# Altium footprint library Con High-Speed PCB.PcbLib: 35 footprints (part 1 of 3)
Each footprint in its own frame and in the unit in brackets; x right, y up, seen from the top. Pads: shape width x height; smd on the part's side, far side on the other; paste and mask are expansions set on the pad; w line width, h text height; cw(c..) or ccw(c..) is an arc to the next point about the centre after c.
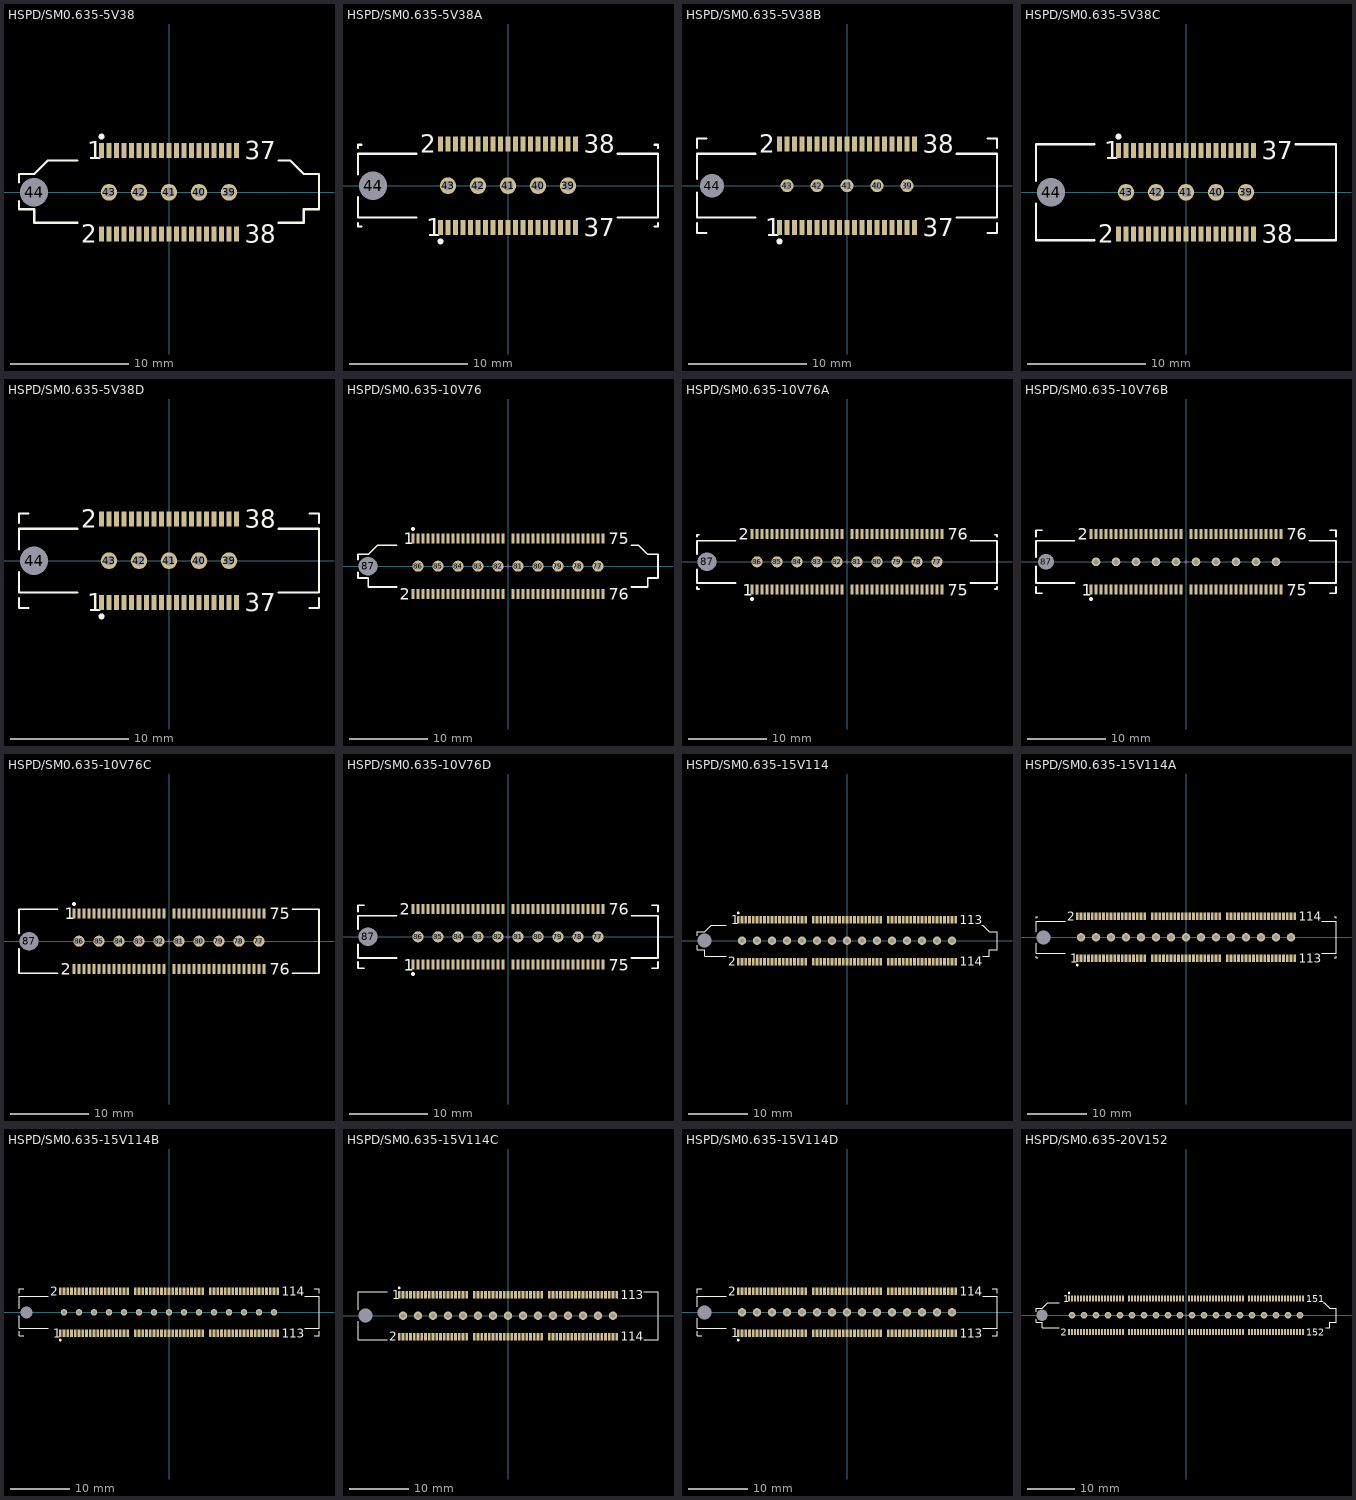
[diagram p0: the footprints below, top view; thin cyan lines are the x and y axes]

## HSPD/SM0.635-5V38 [mil] "Connector; High-Speed, Plug; 38 Position; Vertical"
height 435.83
pads (44):
  rect 17x50 smd: 1(-225,139) 2(-225,-139) 3(-200,139) 4(-200,-139) 5(-175,139) 6(-175,-139) 7(-150,139) 8(-150,-139) 9(-125,139) 10(-125,-139) 11(-100,139) 12(-100,-139) 13(-75,139) 14(-75,-139) 15(-50,139) 16(-50,-139) 17(-25,139) 18(-25,-139) 19(0,139) 20(0,-139) 21(25,139) 22(25,-139) 23(50,139) 24(50,-139) 25(75,139) 26(75,-139) 27(100,139) 28(100,-139) 29(125,139) 30(125,-139) 31(150,139) 32(150,-139) 33(175,139) 34(175,-139) 35(200,139) 36(200,-139) 37(225,139) 38(225,-139)
  round 55.12 hole 32: 39(200,0) 40(100,0) 41(0,0) 42(-100,0) 43(-200,0)
  round 82.19 hole 94 unplated: 44(-450,0)
Top Overlay:
  circle w9.84: c-225,185.65 r4.92
  lines w7.87: -500,-29.2 -500,-56.88 -449,-56.88 -449,-101.88 -306.32,-101.88 ; -500,33.43 -500,61.12 -449,61.12 -404,106.12 -306.32,106.12 ; 365.36,-101.88 449,-101.88 449,-56.88 500,-56.88 500,61.12 449,61.12 404,106.12 365.36,106.12
  text "1" at -272.24,109.47 h59.06
  text "2" at -291.93,-168.53 h59.06
  text "37" at 252.56,109.47 h59.06
  text "38" at 252.56,-168.53 h59.06

## HSPD/SM0.635-5V38A [mil] "Connector; High-Speed, Receptacle; 38 Position; Vertical"
height 250
pads (44):
  rect 17x50 smd: 1(-225,-139) 2(-225,139) 3(-200,-139) 4(-200,139) 5(-175,-139) 6(-175,139) 7(-150,-139) 8(-150,139) 9(-125,-139) 10(-125,139) 11(-100,-139) 12(-100,139) 13(-75,-139) 14(-75,139) 15(-50,-139) 16(-50,139) 17(-25,-139) 18(-25,139) 19(0,-139) 20(0,139) 21(25,-139) 22(25,139) 23(50,-139) 24(50,139) 25(75,-139) 26(75,139) 27(100,-139) 28(100,139) 29(125,-139) 30(125,139) 31(150,-139) 32(150,139) 33(175,-139) 34(175,139) 35(200,-139) 36(200,139) 37(225,-139) 38(225,139)
  round 55.12 hole 32: 39(200,0) 40(100,0) 41(0,0) 42(-100,0) 43(-200,0)
  round 82.19 hole 94 unplated: 44(-450,0)
Top Overlay:
  circle w9.84: c-225,-185.65 r4.92
  lines w7.87: -500,-125.69 -500,-136 -489.69,-136 ; -500,-37.91 -500,-106 -306.32,-106 ; -500,37.91 -500,106 -306.32,106 ; -500,125.69 -500,136 -489.69,136 ; 365.36,-106 500,-106 500,106 365.36,106 ; 489.69,-136 500,-136 500,-125.69 ; 489.69,136 500,136 500,125.69
  text "1" at -272.24,-168.53 h59.06
  text "2" at -291.93,109.47 h59.06
  text "37" at 252.56,-168.53 h59.06
  text "38" at 252.56,109.47 h59.06

## HSPD/SM0.635-5V38B [mil] "Connector; High-Speed, Receptacle; 38 Position; Vertical"
height 600.79
pads (44):
  rect 17x50 smd: 1(-225,-139) 2(-225,139) 3(-200,-139) 4(-200,139) 5(-175,-139) 6(-175,139) 7(-150,-139) 8(-150,139) 9(-125,-139) 10(-125,139) 11(-100,-139) 12(-100,139) 13(-75,-139) 14(-75,139) 15(-50,-139) 16(-50,139) 17(-25,-139) 18(-25,139) 19(0,-139) 20(0,139) 21(25,-139) 22(25,139) 23(50,-139) 24(50,139) 25(75,-139) 26(75,139) 27(100,-139) 28(100,139) 29(125,-139) 30(125,139) 31(150,-139) 32(150,139) 33(175,-139) 34(175,139) 35(200,-139) 36(200,139) 37(225,-139) 38(225,139)
  round 43.31 hole 25: 39(200,0) 40(100,0) 41(0,0) 42(-100,0) 43(-200,0)
  round 67.19 hole 79 unplated: 44(-450,0)
Top Overlay:
  circle w9.84: c-225,-185.65 r4.92
  lines w7.87: -500,-125.69 -500,-157.5 -468.19,-157.5 ; -500,-23.5 -500,-106 -306.32,-106 ; -500,23.5 -500,106 -306.32,106 ; -500,125.69 -500,157.5 -468.19,157.5 ; 365.36,-106 500,-106 500,106 365.36,106 ; 468.19,-157.5 500,-157.5 500,-125.69 ; 468.19,157.5 500,157.5 500,125.69
  text "38" at 252.56,109.47 h59.06
  text "37" at 252.56,-168.53 h59.06
  text "2" at -291.93,109.47 h59.06
  text "1" at -272.24,-168.53 h59.06

## HSPD/SM0.635-5V38C [mil] "Connector; High-Speed, Plug; 38 Position; Vertical"
height 903.15
pads (44):
  rect 17x50 smd: 1(-225,139) 2(-225,-139) 3(-200,139) 4(-200,-139) 5(-175,139) 6(-175,-139) 7(-150,139) 8(-150,-139) 9(-125,139) 10(-125,-139) 11(-100,139) 12(-100,-139) 13(-75,139) 14(-75,-139) 15(-50,139) 16(-50,-139) 17(-25,139) 18(-25,-139) 19(0,139) 20(0,-139) 21(25,139) 22(25,-139) 23(50,139) 24(50,-139) 25(75,139) 26(75,-139) 27(100,139) 28(100,-139) 29(125,139) 30(125,-139) 31(150,139) 32(150,-139) 33(175,139) 34(175,-139) 35(200,139) 36(200,-139) 37(225,139) 38(225,-139)
  round 55.12 hole 32: 39(200,0) 40(100,0) 41(0,0) 42(-100,0) 43(-200,0)
  round 82.19 hole 94 unplated: 44(-450,0)
Top Overlay:
  circle w9.84: c-225,185.65 r4.92
  lines w7.87: -500,-37.91 -500,-160 -306.32,-160 ; -500,37.91 -500,160 -306.32,160 ; 365.36,-160 500,-160 500,160 365.36,160
  text "2" at -291.93,-168.53 h59.06
  text "1" at -272.24,109.47 h59.06
  text "37" at 252.56,109.47 h59.06
  text "38" at 252.56,-168.53 h59.06

## HSPD/SM0.635-5V38D [mil] "Connector; High-Speed, Receptacle; 38 Position; Vertical"
height 600.79
pads (44):
  rect 17x50 smd: 1(-225,-139) 2(-225,139) 3(-200,-139) 4(-200,139) 5(-175,-139) 6(-175,139) 7(-150,-139) 8(-150,139) 9(-125,-139) 10(-125,139) 11(-100,-139) 12(-100,139) 13(-75,-139) 14(-75,139) 15(-50,-139) 16(-50,139) 17(-25,-139) 18(-25,139) 19(0,-139) 20(0,139) 21(25,-139) 22(25,139) 23(50,-139) 24(50,139) 25(75,-139) 26(75,139) 27(100,-139) 28(100,139) 29(125,-139) 30(125,139) 31(150,-139) 32(150,139) 33(175,-139) 34(175,139) 35(200,-139) 36(200,139) 37(225,-139) 38(225,139)
  round 55.12 hole 32: 39(200,0) 40(100,0) 41(0,0) 42(-100,0) 43(-200,0)
  round 82.19 hole 94 unplated: 44(-450,0)
Top Overlay:
  circle w9.84: c-225,-185.65 r4.92
  lines w7.87: -500,-125.69 -500,-157.5 -468.19,-157.5 ; -500,-37.91 -500,-106 -306.32,-106 ; -500,37.91 -500,106 -306.32,106 ; -500,125.69 -500,157.5 -468.19,157.5 ; 365.36,-106 500,-106 500,106 365.36,106 ; 468.19,-157.5 500,-157.5 500,-125.69 ; 468.19,157.5 500,157.5 500,125.69
  text "38" at 252.56,109.47 h59.06
  text "37" at 252.56,-168.53 h59.06
  text "2" at -291.93,109.47 h59.06
  text "1" at -272.24,-168.53 h59.06

## HSPD/SM0.635-10V76 [mil] "Connector; High-Speed, Plug; 76 Position; Vertical"
height 435.83
pads (87):
  rect 17x50 smd: 1(-475,139) 2(-475,-139) 3(-450,139) 4(-450,-139) 5(-425,139) 6(-425,-139) 7(-400,139) 8(-400,-139) 9(-375,139) 10(-375,-139) 11(-350,139) 12(-350,-139) 13(-325,139) 14(-325,-139) 15(-300,139) 16(-300,-139) 17(-275,139) 18(-275,-139) 19(-250,139) 20(-250,-139) 21(-225,139) 22(-225,-139) 23(-200,139) 24(-200,-139) 25(-175,139) 26(-175,-139) 27(-150,139) 28(-150,-139) 29(-125,139) 30(-125,-139) 31(-100,139) 32(-100,-139) 33(-75,139) 34(-75,-139) 35(-50,139) 36(-50,-139) 37(-25,139) 38(-25,-139) 39(25,139) 40(25,-139) 41(50,139) 42(50,-139) 43(75,139) 44(75,-139) 45(100,139) 46(100,-139) 47(125,139) 48(125,-139) 49(150,139) 50(150,-139) 51(175,139) 52(175,-139) 53(200,139) 54(200,-139) 55(225,139) 56(225,-139) 57(250,139) 58(250,-139) 59(275,139) 60(275,-139) 61(300,139) 62(300,-139) 63(325,139) 64(325,-139) 65(350,139) 66(350,-139) 67(375,139) 68(375,-139) 69(400,139) 70(400,-139) 71(425,139) 72(425,-139) 73(450,139) 74(450,-139) 75(475,139) 76(475,-139)
  round 55.12 hole 32: 77(450,0) 78(350,0) 79(250,0) 80(150,0) 81(50,0) 82(-50,0) 83(-150,0) 84(-250,0) 85(-350,0) 86(-450,0)
  round 82.19 hole 94 unplated: 87(-700,0)
Top Overlay:
  circle w9.84: c-475,185.65 r4.92
  lines w7.87: -750,-31.32 -750,-59 -699,-59 -699,-104 -556.32,-104 ; -750,31.32 -750,59 -699,59 -654,104 -556.32,104 ; 615.36,-104 699,-104 699,-59 750,-59 750,59 699,59 654,104 615.36,104
  text "1" at -522.24,109.47 h59.06
  text "2" at -541.93,-168.53 h59.06
  text "75" at 502.56,109.47 h59.06
  text "76" at 502.56,-168.53 h59.06
Mechanical 1:
  lines w3.94: -10,0 10,0 ; 0,-10 0,10

## HSPD/SM0.635-10V76A [mil] "Connector; High-Speed, Receptacle; 76 Position; Vertical"
height 250
pads (87):
  rect 17x50 smd: 1(-475,-139) 2(-475,139) 3(-450,-139) 4(-450,139) 5(-425,-139) 6(-425,139) 7(-400,-139) 8(-400,139) 9(-375,-139) 10(-375,139) 11(-350,-139) 12(-350,139) 13(-325,-139) 14(-325,139) 15(-300,-139) 16(-300,139) 17(-275,-139) 18(-275,139) 19(-250,-139) 20(-250,139) 21(-225,-139) 22(-225,139) 23(-200,-139) 24(-200,139) 25(-175,-139) 26(-175,139) 27(-150,-139) 28(-150,139) 29(-125,-139) 30(-125,139) 31(-100,-139) 32(-100,139) 33(-75,-139) 34(-75,139) 35(-50,-139) 36(-50,139) 37(-25,-139) 38(-25,139) 39(25,-139) 40(25,139) 41(50,-139) 42(50,139) 43(75,-139) 44(75,139) 45(100,-139) 46(100,139) 47(125,-139) 48(125,139) 49(150,-139) 50(150,139) 51(175,-139) 52(175,139) 53(200,-139) 54(200,139) 55(225,-139) 56(225,139) 57(250,-139) 58(250,139) 59(275,-139) 60(275,139) 61(300,-139) 62(300,139) 63(325,-139) 64(325,139) 65(350,-139) 66(350,139) 67(375,-139) 68(375,139) 69(400,-139) 70(400,139) 71(425,-139) 72(425,139) 73(450,-139) 74(450,139) 75(475,-139) 76(475,139)
  round 55.12 hole 32: 77(450,0) 78(350,0) 79(250,0) 80(150,0) 81(50,0) 82(-50,0) 83(-150,0) 84(-250,0) 85(-350,0) 86(-450,0)
  round 82.19 hole 94 unplated: 87(-700,0)
Top Overlay:
  circle w9.84: c-475,-185.65 r4.92
  lines w7.87: -750,-125.69 -750,-136 -739.68,-136 ; -750,-37.91 -750,-106 -556.32,-106 ; -750,37.91 -750,106 -556.32,106 ; -750,125.69 -750,136 -739.68,136 ; 615.36,-106 750,-106 750,106 615.36,106 ; 739.68,-136 750,-136 750,-125.69 ; 739.68,136 750,136 750,125.69
  text "75" at 502.56,-168.53 h59.06
  text "76" at 502.56,109.47 h59.06
  text "1" at -522.24,-168.53 h59.06
  text "2" at -541.93,109.47 h59.06
Mechanical 1:
  lines w3.94: -10,0 10,0 ; 0,-10 0,10

## HSPD/SM0.635-10V76B [mil] "Connector; High-Speed, Receptacle; 76 Position; Vertical"
height 600.79
pads (87):
  rect 17x50 smd: 1(-475,-139) 2(-475,139) 3(-450,-139) 4(-450,139) 5(-425,-139) 6(-425,139) 7(-400,-139) 8(-400,139) 9(-375,-139) 10(-375,139) 11(-350,-139) 12(-350,139) 13(-325,-139) 14(-325,139) 15(-300,-139) 16(-300,139) 17(-275,-139) 18(-275,139) 19(-250,-139) 20(-250,139) 21(-225,-139) 22(-225,139) 23(-200,-139) 24(-200,139) 25(-175,-139) 26(-175,139) 27(-150,-139) 28(-150,139) 29(-125,-139) 30(-125,139) 31(-100,-139) 32(-100,139) 33(-75,-139) 34(-75,139) 35(-50,-139) 36(-50,139) 37(-25,-139) 38(-25,139) 39(25,-139) 40(25,139) 41(50,-139) 42(50,139) 43(75,-139) 44(75,139) 45(100,-139) 46(100,139) 47(125,-139) 48(125,139) 49(150,-139) 50(150,139) 51(175,-139) 52(175,139) 53(200,-139) 54(200,139) 55(225,-139) 56(225,139) 57(250,-139) 58(250,139) 59(275,-139) 60(275,139) 61(300,-139) 62(300,139) 63(325,-139) 64(325,139) 65(350,-139) 66(350,139) 67(375,-139) 68(375,139) 69(400,-139) 70(400,139) 71(425,-139) 72(425,139) 73(450,-139) 74(450,139) 75(475,-139) 76(475,139)
  round 43.31 hole 25: 77(450,0) 78(350,0) 79(250,0) 80(150,0) 81(50,0) 82(-50,0) 83(-150,0) 84(-250,0) 85(-350,0) 86(-450,0)
  round 67.19 hole 79 unplated: 87(-700,0)
Top Overlay:
  circle w9.84: c-475,-185.65 r4.92
  lines w7.87: -750,-125.69 -750,-157.5 -718.18,-157.5 ; -750,-23.5 -750,-106 -556.32,-106 ; -750,23.5 -750,106 -556.32,106 ; -750,125.69 -750,157.5 -718.18,157.5 ; 615.36,-106 750,-106 750,106 615.36,106 ; 718.18,-157.5 750,-157.5 750,-125.69 ; 718.18,157.5 750,157.5 750,125.69
  text "1" at -522.24,-168.53 h59.06
  text "2" at -541.93,109.47 h59.06
  text "75" at 502.56,-168.53 h59.06
  text "76" at 502.56,109.47 h59.06
Mechanical 1:
  lines w3.94: -10,0 10,0 ; 0,-10 0,10

## HSPD/SM0.635-10V76C [mil] "Connector; High-Speed, Plug; 76 Position; Vertical"
height 903.15
pads (87):
  rect 17x50 smd: 1(-475,139) 2(-475,-139) 3(-450,139) 4(-450,-139) 5(-425,139) 6(-425,-139) 7(-400,139) 8(-400,-139) 9(-375,139) 10(-375,-139) 11(-350,139) 12(-350,-139) 13(-325,139) 14(-325,-139) 15(-300,139) 16(-300,-139) 17(-275,139) 18(-275,-139) 19(-250,139) 20(-250,-139) 21(-225,139) 22(-225,-139) 23(-200,139) 24(-200,-139) 25(-175,139) 26(-175,-139) 27(-150,139) 28(-150,-139) 29(-125,139) 30(-125,-139) 31(-100,139) 32(-100,-139) 33(-75,139) 34(-75,-139) 35(-50,139) 36(-50,-139) 37(-25,139) 38(-25,-139) 39(25,139) 40(25,-139) 41(50,139) 42(50,-139) 43(75,139) 44(75,-139) 45(100,139) 46(100,-139) 47(125,139) 48(125,-139) 49(150,139) 50(150,-139) 51(175,139) 52(175,-139) 53(200,139) 54(200,-139) 55(225,139) 56(225,-139) 57(250,139) 58(250,-139) 59(275,139) 60(275,-139) 61(300,139) 62(300,-139) 63(325,139) 64(325,-139) 65(350,139) 66(350,-139) 67(375,139) 68(375,-139) 69(400,139) 70(400,-139) 71(425,139) 72(425,-139) 73(450,139) 74(450,-139) 75(475,139) 76(475,-139)
  round 55.12 hole 32: 77(450,0) 78(350,0) 79(250,0) 80(150,0) 81(50,0) 82(-50,0) 83(-150,0) 84(-250,0) 85(-350,0) 86(-450,0)
  round 82.19 hole 94 unplated: 87(-700,0)
Top Overlay:
  circle w9.84: c-475,185.65 r4.92
  lines w7.87: -750,-37.91 -750,-160 -556.32,-160 ; -750,37.91 -750,160 -556.32,160 ; 615.36,-160 750,-160 750,160 615.36,160
  text "76" at 502.56,-168.53 h59.06
  text "75" at 502.56,109.47 h59.06
  text "2" at -541.93,-168.53 h59.06
  text "1" at -522.24,109.47 h59.06
Mechanical 1:
  lines w3.94: -10,0 10,0 ; 0,-10 0,10

## HSPD/SM0.635-10V76D [mil] "Connector; High-Speed, Receptacle; 76 Position; Vertical"
height 600.79
pads (87):
  rect 17x50 smd: 1(-475,-139) 2(-475,139) 3(-450,-139) 4(-450,139) 5(-425,-139) 6(-425,139) 7(-400,-139) 8(-400,139) 9(-375,-139) 10(-375,139) 11(-350,-139) 12(-350,139) 13(-325,-139) 14(-325,139) 15(-300,-139) 16(-300,139) 17(-275,-139) 18(-275,139) 19(-250,-139) 20(-250,139) 21(-225,-139) 22(-225,139) 23(-200,-139) 24(-200,139) 25(-175,-139) 26(-175,139) 27(-150,-139) 28(-150,139) 29(-125,-139) 30(-125,139) 31(-100,-139) 32(-100,139) 33(-75,-139) 34(-75,139) 35(-50,-139) 36(-50,139) 37(-25,-139) 38(-25,139) 39(25,-139) 40(25,139) 41(50,-139) 42(50,139) 43(75,-139) 44(75,139) 45(100,-139) 46(100,139) 47(125,-139) 48(125,139) 49(150,-139) 50(150,139) 51(175,-139) 52(175,139) 53(200,-139) 54(200,139) 55(225,-139) 56(225,139) 57(250,-139) 58(250,139) 59(275,-139) 60(275,139) 61(300,-139) 62(300,139) 63(325,-139) 64(325,139) 65(350,-139) 66(350,139) 67(375,-139) 68(375,139) 69(400,-139) 70(400,139) 71(425,-139) 72(425,139) 73(450,-139) 74(450,139) 75(475,-139) 76(475,139)
  round 55.12 hole 32: 77(450,0) 78(350,0) 79(250,0) 80(150,0) 81(50,0) 82(-50,0) 83(-150,0) 84(-250,0) 85(-350,0) 86(-450,0)
  round 82.19 hole 94 unplated: 87(-700,0)
Top Overlay:
  circle w9.84: c-475,-185.65 r4.92
  lines w7.87: -750,-125.69 -750,-157.5 -718.18,-157.5 ; -750,-37.91 -750,-106 -556.32,-106 ; -750,37.91 -750,106 -556.32,106 ; -750,125.69 -750,157.5 -718.18,157.5 ; 615.36,-106 750,-106 750,106 615.36,106 ; 718.18,-157.5 750,-157.5 750,-125.69 ; 718.18,157.5 750,157.5 750,125.69
  text "76" at 502.56,109.47 h59.06
  text "75" at 502.56,-168.53 h59.06
  text "2" at -541.93,109.47 h59.06
  text "1" at -522.24,-168.53 h59.06
Mechanical 1:
  lines w3.94: -10,0 10,0 ; 0,-10 0,10

## HSPD/SM0.635-15V114 [mil] "Connector; High-Speed, Plug; 114 Position; Vertical"
height 435.83
pads (130):
  rect 17x50 smd: 1(-725,139) 2(-725,-139) 3(-700,139) 4(-700,-139) 5(-675,139) 6(-675,-139) 7(-650,139) 8(-650,-139) 9(-625,139) 10(-625,-139) 11(-600,139) 12(-600,-139) 13(-575,139) 14(-575,-139) 15(-550,139) 16(-550,-139) 17(-525,139) 18(-525,-139) 19(-500,139) 20(-500,-139) 21(-475,139) 22(-475,-139) 23(-450,139) 24(-450,-139) 25(-425,139) 26(-425,-139) 27(-400,139) 28(-400,-139) 29(-375,139) 30(-375,-139) 31(-350,139) 32(-350,-139) 33(-325,139) 34(-325,-139) 35(-300,139) 36(-300,-139) 37(-275,139) 38(-275,-139) 39(-225,139) 40(-225,-139) 41(-200,139) 42(-200,-139) 43(-175,139) 44(-175,-139) 45(-150,139) 46(-150,-139) 47(-125,139) 48(-125,-139) 49(-100,139) 50(-100,-139) 51(-75,139) 52(-75,-139) 53(-50,139) 54(-50,-139) 55(-25,139) 56(-25,-139) 57(0,139) 58(0,-139) 59(25,139) 60(25,-139) 61(50,139) 62(50,-139) 63(75,139) 64(75,-139) 65(100,139) 66(100,-139) 67(125,139) 68(125,-139) 69(150,139) 70(150,-139) 71(175,139) 72(175,-139) 73(200,139) 74(200,-139) 75(225,139) 76(225,-139) 77(275,139) 78(275,-139) 79(300,139) 80(300,-139) 81(325,139) 82(325,-139) 83(350,139) 84(350,-139) 85(375,139) 86(375,-139) 87(400,139) 88(400,-139) 89(425,139) 90(425,-139) 91(450,139) 92(450,-139) 93(475,139) 94(475,-139) 95(500,139) 96(500,-139) 97(525,139) 98(525,-139) 99(550,139) 100(550,-139) 101(575,139) 102(575,-139) 103(600,139) 104(600,-139) 105(625,139) 106(625,-139) 107(650,139) 108(650,-139) 109(675,139) 110(675,-139) 111(700,139) 112(700,-139) 113(725,139) 114(725,-139)
  round 55.12 hole 32: 115(700,0) 116(600,0) 117(500,0) 118(400,0) 119(300,0) 120(200,0) 121(100,0) 122(0,0) 123(-100,0) 124(-200,0) 125(-300,0) 126(-400,0) 127(-500,0) 128(-600,0) 129(-700,0)
  round 82.19 hole 94 unplated: 130(-950,0)
Top Overlay:
  circle w9.84: c-725,185.65 r4.92
  lines w7.87: -1000,-31.32 -1000,-59 -949,-59 -949,-104 -806.32,-104 ; -1000,31.32 -1000,59 -949,59 -904,104 -806.32,104 ; 898.23,104 904,104 949,59 1000,59 1000,-59 949,-59 949,-104 904.71,-104
  text "114" at 752.56,-168.53 h59.06
  text "113" at 752.56,109.47 h59.06
  text "1" at -772.24,109.47 h59.06
  text "2" at -791.93,-168.53 h59.06

## HSPD/SM0.635-15V114A [mil] "Connector; High-Speed, Receptacle; 114 Position; Vertical"
height 250
pads (130):
  rect 17x50 smd: 1(-725,-139) 2(-725,139) 3(-700,-139) 4(-700,139) 5(-675,-139) 6(-675,139) 7(-650,-139) 8(-650,139) 9(-625,-139) 10(-625,139) 11(-600,-139) 12(-600,139) 13(-575,-139) 14(-575,139) 15(-550,-139) 16(-550,139) 17(-525,-139) 18(-525,139) 19(-500,-139) 20(-500,139) 21(-475,-139) 22(-475,139) 23(-450,-139) 24(-450,139) 25(-425,-139) 26(-425,139) 27(-400,-139) 28(-400,139) 29(-375,-139) 30(-375,139) 31(-350,-139) 32(-350,139) 33(-325,-139) 34(-325,139) 35(-300,-139) 36(-300,139) 37(-275,-139) 38(-275,139) 39(-225,-139) 40(-225,139) 41(-200,-139) 42(-200,139) 43(-175,-139) 44(-175,139) 45(-150,-139) 46(-150,139) 47(-125,-139) 48(-125,139) 49(-100,-139) 50(-100,139) 51(-75,-139) 52(-75,139) 53(-50,-139) 54(-50,139) 55(-25,-139) 56(-25,139) 57(0,-139) 58(0,139) 59(25,-139) 60(25,139) 61(50,-139) 62(50,139) 63(75,-139) 64(75,139) 65(100,-139) 66(100,139) 67(125,-139) 68(125,139) 69(150,-139) 70(150,139) 71(175,-139) 72(175,139) 73(200,-139) 74(200,139) 75(225,-139) 76(225,139) 77(275,-139) 78(275,139) 79(300,-139) 80(300,139) 81(325,-139) 82(325,139) 83(350,-139) 84(350,139) 85(375,-139) 86(375,139) 87(400,-139) 88(400,139) 89(425,-139) 90(425,139) 91(450,-139) 92(450,139) 93(475,-139) 94(475,139) 95(500,-139) 96(500,139) 97(525,-139) 98(525,139) 99(550,-139) 100(550,139) 101(575,-139) 102(575,139) 103(600,-139) 104(600,139) 105(625,-139) 106(625,139) 107(650,-139) 108(650,139) 109(675,-139) 110(675,139) 111(700,-139) 112(700,139) 113(725,-139) 114(725,139)
  round 55.12 hole 32: 115(700,0) 116(600,0) 117(500,0) 118(400,0) 119(300,0) 120(200,0) 121(100,0) 122(0,0) 123(-100,0) 124(-200,0) 125(-300,0) 126(-400,0) 127(-500,0) 128(-600,0) 129(-700,0)
  round 82.19 hole 94 unplated: 130(-950,0)
Top Overlay:
  circle w9.84: c-725,-185.65 r4.92
  lines w7.87: -1000,-125.69 -1000,-136 -989.68,-136 ; -1000,-37.91 -1000,-106 -806.32,-106 ; -1000,37.91 -1000,106 -806.32,106 ; -1000,125.69 -1000,136 -989.68,136 ; 904.71,-106 1000,-106 1000,106 904.71,106 ; 989.68,-136 1000,-136 1000,-125.69 ; 989.68,136 1000,136 1000,125.69
  text "113" at 752.56,-168.53 h59.06
  text "1" at -772.24,-168.53 h59.06
  text "2" at -791.93,109.47 h59.06
  text "114" at 752.56,109.47 h59.06

## HSPD/SM0.635-15V114B [mil] "Connector; High-Speed, Receptacle; 114 Position; Vertical"
height 600.79
pads (130):
  rect 17x50 smd: 1(-725,-139) 2(-725,139) 3(-700,-139) 4(-700,139) 5(-675,-139) 6(-675,139) 7(-650,-139) 8(-650,139) 9(-625,-139) 10(-625,139) 11(-600,-139) 12(-600,139) 13(-575,-139) 14(-575,139) 15(-550,-139) 16(-550,139) 17(-525,-139) 18(-525,139) 19(-500,-139) 20(-500,139) 21(-475,-139) 22(-475,139) 23(-450,-139) 24(-450,139) 25(-425,-139) 26(-425,139) 27(-400,-139) 28(-400,139) 29(-375,-139) 30(-375,139) 31(-350,-139) 32(-350,139) 33(-325,-139) 34(-325,139) 35(-300,-139) 36(-300,139) 37(-275,-139) 38(-275,139) 39(-225,-139) 40(-225,139) 41(-200,-139) 42(-200,139) 43(-175,-139) 44(-175,139) 45(-150,-139) 46(-150,139) 47(-125,-139) 48(-125,139) 49(-100,-139) 50(-100,139) 51(-75,-139) 52(-75,139) 53(-50,-139) 54(-50,139) 55(-25,-139) 56(-25,139) 57(0,-139) 58(0,139) 59(25,-139) 60(25,139) 61(50,-139) 62(50,139) 63(75,-139) 64(75,139) 65(100,-139) 66(100,139) 67(125,-139) 68(125,139) 69(150,-139) 70(150,139) 71(175,-139) 72(175,139) 73(200,-139) 74(200,139) 75(225,-139) 76(225,139) 77(275,-139) 78(275,139) 79(300,-139) 80(300,139) 81(325,-139) 82(325,139) 83(350,-139) 84(350,139) 85(375,-139) 86(375,139) 87(400,-139) 88(400,139) 89(425,-139) 90(425,139) 91(450,-139) 92(450,139) 93(475,-139) 94(475,139) 95(500,-139) 96(500,139) 97(525,-139) 98(525,139) 99(550,-139) 100(550,139) 101(575,-139) 102(575,139) 103(600,-139) 104(600,139) 105(625,-139) 106(625,139) 107(650,-139) 108(650,139) 109(675,-139) 110(675,139) 111(700,-139) 112(700,139) 113(725,-139) 114(725,139)
  round 43.31 hole 25: 115(700,0) 116(600,0) 117(500,0) 118(400,0) 119(300,0) 120(200,0) 121(100,0) 122(0,0) 123(-100,0) 124(-200,0) 125(-300,0) 126(-400,0) 127(-500,0) 128(-600,0) 129(-700,0)
  round 67.19 hole 79 unplated: 130(-950,0)
Top Overlay:
  circle w9.84: c-725,-185.65 r4.92
  lines w7.87: -1000,-125.69 -1000,-157.5 -968.18,-157.5 ; -1000,-23.5 -1000,-106 -806.32,-106 ; -1000,23.5 -1000,106 -806.32,106 ; -1000,125.69 -1000,157.5 -968.18,157.5 ; 904.71,-106 1000,-106 1000,106 904.71,106 ; 968.18,-157.5 1000,-157.5 1000,-125.69 ; 968.18,157.5 1000,157.5 1000,125.69
  text "1" at -772.24,-168.53 h59.06
  text "2" at -791.93,109.47 h59.06
  text "114" at 752.56,109.47 h59.06
  text "113" at 752.56,-168.53 h59.06

## HSPD/SM0.635-15V114C [mil] "Connector; High-Speed, Plug; 114 Position; Vertical"
height 903.15
pads (130):
  rect 17x50 smd: 1(-725,139) 2(-725,-139) 3(-700,139) 4(-700,-139) 5(-675,139) 6(-675,-139) 7(-650,139) 8(-650,-139) 9(-625,139) 10(-625,-139) 11(-600,139) 12(-600,-139) 13(-575,139) 14(-575,-139) 15(-550,139) 16(-550,-139) 17(-525,139) 18(-525,-139) 19(-500,139) 20(-500,-139) 21(-475,139) 22(-475,-139) 23(-450,139) 24(-450,-139) 25(-425,139) 26(-425,-139) 27(-400,139) 28(-400,-139) 29(-375,139) 30(-375,-139) 31(-350,139) 32(-350,-139) 33(-325,139) 34(-325,-139) 35(-300,139) 36(-300,-139) 37(-275,139) 38(-275,-139) 39(-225,139) 40(-225,-139) 41(-200,139) 42(-200,-139) 43(-175,139) 44(-175,-139) 45(-150,139) 46(-150,-139) 47(-125,139) 48(-125,-139) 49(-100,139) 50(-100,-139) 51(-75,139) 52(-75,-139) 53(-50,139) 54(-50,-139) 55(-25,139) 56(-25,-139) 57(0,139) 58(0,-139) 59(25,139) 60(25,-139) 61(50,139) 62(50,-139) 63(75,139) 64(75,-139) 65(100,139) 66(100,-139) 67(125,139) 68(125,-139) 69(150,139) 70(150,-139) 71(175,139) 72(175,-139) 73(200,139) 74(200,-139) 75(225,139) 76(225,-139) 77(275,139) 78(275,-139) 79(300,139) 80(300,-139) 81(325,139) 82(325,-139) 83(350,139) 84(350,-139) 85(375,139) 86(375,-139) 87(400,139) 88(400,-139) 89(425,139) 90(425,-139) 91(450,139) 92(450,-139) 93(475,139) 94(475,-139) 95(500,139) 96(500,-139) 97(525,139) 98(525,-139) 99(550,139) 100(550,-139) 101(575,139) 102(575,-139) 103(600,139) 104(600,-139) 105(625,139) 106(625,-139) 107(650,139) 108(650,-139) 109(675,139) 110(675,-139) 111(700,139) 112(700,-139) 113(725,139) 114(725,-139)
  round 55.12 hole 32: 115(700,0) 116(600,0) 117(500,0) 118(400,0) 119(300,0) 120(200,0) 121(100,0) 122(0,0) 123(-100,0) 124(-200,0) 125(-300,0) 126(-400,0) 127(-500,0) 128(-600,0) 129(-700,0)
  round 82.19 hole 94 unplated: 130(-950,0)
Top Overlay:
  circle w9.84: c-725,185.65 r4.92
  lines w7.87: -1000,-37.91 -1000,-160 -806.32,-160 ; -1000,37.91 -1000,160 -806.32,160 ; 904.71,-160 1000,-160 1000,160 904.71,160
  text "114" at 752.56,-168.53 h59.06
  text "113" at 752.56,109.47 h59.06
  text "2" at -791.93,-168.53 h59.06
  text "1" at -772.24,109.47 h59.06

## HSPD/SM0.635-15V114D [mil] "Connector; High-Speed, Receptacle; 114 Position; Vertical"
height 600.79
pads (130):
  rect 17x50 smd: 1(-725,-139) 2(-725,139) 3(-700,-139) 4(-700,139) 5(-675,-139) 6(-675,139) 7(-650,-139) 8(-650,139) 9(-625,-139) 10(-625,139) 11(-600,-139) 12(-600,139) 13(-575,-139) 14(-575,139) 15(-550,-139) 16(-550,139) 17(-525,-139) 18(-525,139) 19(-500,-139) 20(-500,139) 21(-475,-139) 22(-475,139) 23(-450,-139) 24(-450,139) 25(-425,-139) 26(-425,139) 27(-400,-139) 28(-400,139) 29(-375,-139) 30(-375,139) 31(-350,-139) 32(-350,139) 33(-325,-139) 34(-325,139) 35(-300,-139) 36(-300,139) 37(-275,-139) 38(-275,139) 39(-225,-139) 40(-225,139) 41(-200,-139) 42(-200,139) 43(-175,-139) 44(-175,139) 45(-150,-139) 46(-150,139) 47(-125,-139) 48(-125,139) 49(-100,-139) 50(-100,139) 51(-75,-139) 52(-75,139) 53(-50,-139) 54(-50,139) 55(-25,-139) 56(-25,139) 57(0,-139) 58(0,139) 59(25,-139) 60(25,139) 61(50,-139) 62(50,139) 63(75,-139) 64(75,139) 65(100,-139) 66(100,139) 67(125,-139) 68(125,139) 69(150,-139) 70(150,139) 71(175,-139) 72(175,139) 73(200,-139) 74(200,139) 75(225,-139) 76(225,139) 77(275,-139) 78(275,139) 79(300,-139) 80(300,139) 81(325,-139) 82(325,139) 83(350,-139) 84(350,139) 85(375,-139) 86(375,139) 87(400,-139) 88(400,139) 89(425,-139) 90(425,139) 91(450,-139) 92(450,139) 93(475,-139) 94(475,139) 95(500,-139) 96(500,139) 97(525,-139) 98(525,139) 99(550,-139) 100(550,139) 101(575,-139) 102(575,139) 103(600,-139) 104(600,139) 105(625,-139) 106(625,139) 107(650,-139) 108(650,139) 109(675,-139) 110(675,139) 111(700,-139) 112(700,139) 113(725,-139) 114(725,139)
  round 55.12 hole 32: 115(700,0) 116(600,0) 117(500,0) 118(400,0) 119(300,0) 120(200,0) 121(100,0) 122(0,0) 123(-100,0) 124(-200,0) 125(-300,0) 126(-400,0) 127(-500,0) 128(-600,0) 129(-700,0)
  round 82.19 hole 94 unplated: 130(-950,0)
Top Overlay:
  circle w9.84: c-725,-185.65 r4.92
  lines w7.87: -1000,-125.69 -1000,-157.5 -968.18,-157.5 ; -1000,-37.91 -1000,-106 -806.32,-106 ; -1000,37.91 -1000,106 -806.32,106 ; -1000,125.69 -1000,157.5 -968.18,157.5 ; 904.71,-106 1000,-106 1000,106 904.71,106 ; 968.18,-157.5 1000,-157.5 1000,-125.69 ; 968.18,157.5 1000,157.5 1000,125.69
  text "113" at 752.56,-168.53 h59.06
  text "114" at 752.56,109.47 h59.06
  text "2" at -791.93,109.47 h59.06
  text "1" at -772.24,-166.56 h59.06

## HSPD/SM0.635-20V152 [mil] "Connector; High-Speed, Plug; 152 Position; Vertical"
height 501.18
pads (173):
  rect 17x50 smd: 1(-975,139) 2(-975,-139) 3(-950,139) 4(-950,-139) 5(-925,139) 6(-925,-139) 7(-900,139) 8(-900,-139) 9(-875,139) 10(-875,-139) 11(-850,139) 12(-850,-139) 13(-825,139) 14(-825,-139) 15(-800,139) 16(-800,-139) 17(-775,139) 18(-775,-139) 19(-750,139) 20(-750,-139) 21(-725,139) 22(-725,-139) 23(-700,139) 24(-700,-139) 25(-675,139) 26(-675,-139) 27(-650,139) 28(-650,-139) 29(-625,139) 30(-625,-139) 31(-600,139) 32(-600,-139) 33(-575,139) 34(-575,-139) 35(-550,139) 36(-550,-139) 37(-525,139) 38(-525,-139) 39(-475,139) 40(-475,-139) 41(-450,139) 42(-450,-139) 43(-425,139) 44(-425,-139) 45(-400,139) 46(-400,-139) 47(-375,139) 48(-375,-139) 49(-350,139) 50(-350,-139) 51(-325,139) 52(-325,-139) 53(-300,139) 54(-300,-139) 55(-275,139) 56(-275,-139) 57(-250,139) 58(-250,-139) 59(-225,139) 60(-225,-139) 61(-200,139) 62(-200,-139) 63(-175,139) 64(-175,-139) 65(-150,139) 66(-150,-139) 67(-125,139) 68(-125,-139) 69(-100,139) 70(-100,-139) 71(-75,139) 72(-75,-139) 73(-50,139) 74(-50,-139) 75(-25,139) 76(-25,-139) 77(25,139) 78(25,-139) 79(50,139) 80(50,-139) 81(75,139) 82(75,-139) 83(100,139) 84(100,-139) 85(125,139) 86(125,-139) 87(150,139) 88(150,-139) 89(175,139) 90(175,-139) 91(200,139) 92(200,-139) 93(225,139) 94(225,-139) 95(250,139) 96(250,-139) 97(275,139) 98(275,-139) 99(300,139) 100(300,-139) 101(325,139) 102(325,-139) 103(350,139) 104(350,-139) 105(375,139) 106(375,-139) 107(400,139) 108(400,-139) 109(425,139) 110(425,-139) 111(450,139) 112(450,-139) 113(475,139) 114(475,-139) 115(525,139) 116(525,-139) 117(550,139) 118(550,-139) 119(575,139) 120(575,-139) 121(600,139) 122(600,-139) 123(625,139) 124(625,-139) 125(650,139) 126(650,-139) 127(675,139) 128(675,-139) 129(700,139) 130(700,-139) 131(725,139) 132(725,-139) 133(750,139) 134(750,-139) 135(775,139) 136(775,-139) 137(800,139) 138(800,-139) 139(825,139) 140(825,-139) 141(850,139) 142(850,-139) 143(875,139) 144(875,-139) 145(900,139) 146(900,-139) 147(925,139) 148(925,-139) 149(950,139) 150(950,-139) 151(975,139) 152(975,-139)
  round 55.12 hole 32: 153(950,0) 154(850,0) 155(750,0) 156(650,0) 157(550,0) 158(450,0) 159(350,0) 160(250,0) 161(150,0) 162(50,0) 163(-50,0) 164(-150,0) 165(-250,0) 166(-350,0) 167(-450,0) 168(-550,0) 169(-650,0) 170(-750,0) 171(-850,0) 172(-950,0)
  round 82.19 hole 94 unplated: 173(-1200,0)
Top Overlay:
  circle w9.84: c-975,185.65 r4.92
  lines w7.87: -1250,-31.32 -1250,-59 -1199,-59 -1199,-104 -1056.32,-104 ; -1250,31.32 -1250,59 -1199,59 -1154,104 -1056.32,104 ; 1144.87,104 1154,104 1199,59 1250,59 1250,-59 1199,-59 1199,-104 1164.55,-104
  text "151" at 1002.56,109.47 h59.06
  text "152" at 1002.56,-168.53 h59.06
  text "2" at -1041.93,-168.53 h59.06
  text "1" at -1022.24,109.47 h59.06
Mechanical 1:
  lines w3.94: -10,0 10,0 ; 0,-10 0,10